# EAGLE library part ACOUSTICLIB_MOSFET-PCHANNEL_DUAL (library LIBRARY)
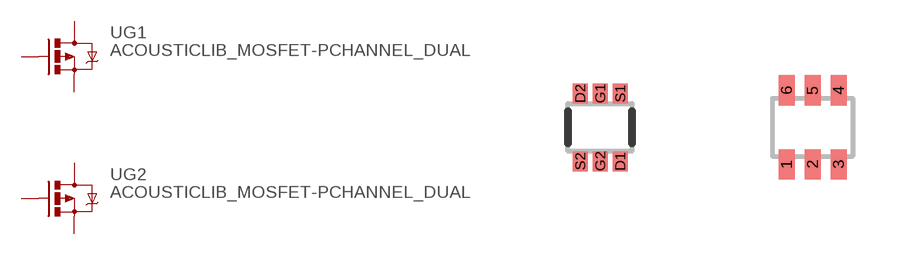
[diagram p5: symbol with the pads of ACOUSTICLIB_SOT563; footprints ACOUSTICLIB_SOT563, ACOUSTICLIB_SC-70]

Designator prefix U; gates G1=ACOUSTICLIB_MOSFET-PCHANNEL G2=ACOUSTICLIB_MOSFET-PCHANNEL

## ACOUSTICLIB_MOSFET-PCHANNEL_DUAL563  [ACOUSTICLIB_SOT563]
D1  G1:D  pas
D2  G2:D  pas
G1  G1:G  pas
G2  G2:G  pas
S1  G1:S  pas
S2  G2:S  pas

## ACOUSTICLIB_MOSFET-PCHANNEL_DUALSC-70  [ACOUSTICLIB_SC-70]
1  G1:S  pas
2  G1:G  pas
3  G2:D  pas
4  G2:S  pas
5  G2:G  pas
6  G1:D  pas

## ACOUSTICLIB_MOSFET-PCHANNEL_DUALSOT26 (PROD_ID: TRAN-12444; VALUE: 2A/20V)  [ACOUSTICLIB_SOT26]
1  G1:G  pas
2  G2:S  pas
3  G2:G  pas
4  G2:D  pas
5  G1:S  pas
6  G1:D  pas

## Footprint ACOUSTICLIB_SOT563 (pad centres in mm)
SOT563 for DMG1023UV-7
smd 0.375 x 0.5: D1 0.5,-0.85; D2 -0.5,0.85; G1 0,0.85; G2 0,-0.85; S1 0.5,0.85; S2 -0.5,-0.85

## Footprint ACOUSTICLIB_SC-70 (pad centres in mm)
SC-74 Package
smd 0.4 x 0.75: 1 -0.65,-0.925; 2 0,-0.925; 3 0.65,-0.925; 4 0.65,0.925; 5 0,0.925; 6 -0.65,0.925

## Footprint ACOUSTICLIB_SOT26 (pad centres in mm)
Footprint for SOT-26 part DMP2240UDM
smd 0.55 x 0.8: 1 -0.95,-1.2; 2 0,-1.2; 3 0.95,-1.2; 4 0.95,1.2; 5 0,1.2; 6 -0.95,1.2